# Altium footprint library PassiveFootprints.PcbLib: 16 footprints
Each footprint in its own frame and in the unit in brackets; x right, y up, seen from the top. Pads: shape width x height; smd on the part's side, far side on the other; paste and mask are expansions set on the pad; w line width, h text height; cw(c..) or ccw(c..) is an arc to the next point about the centre after c.
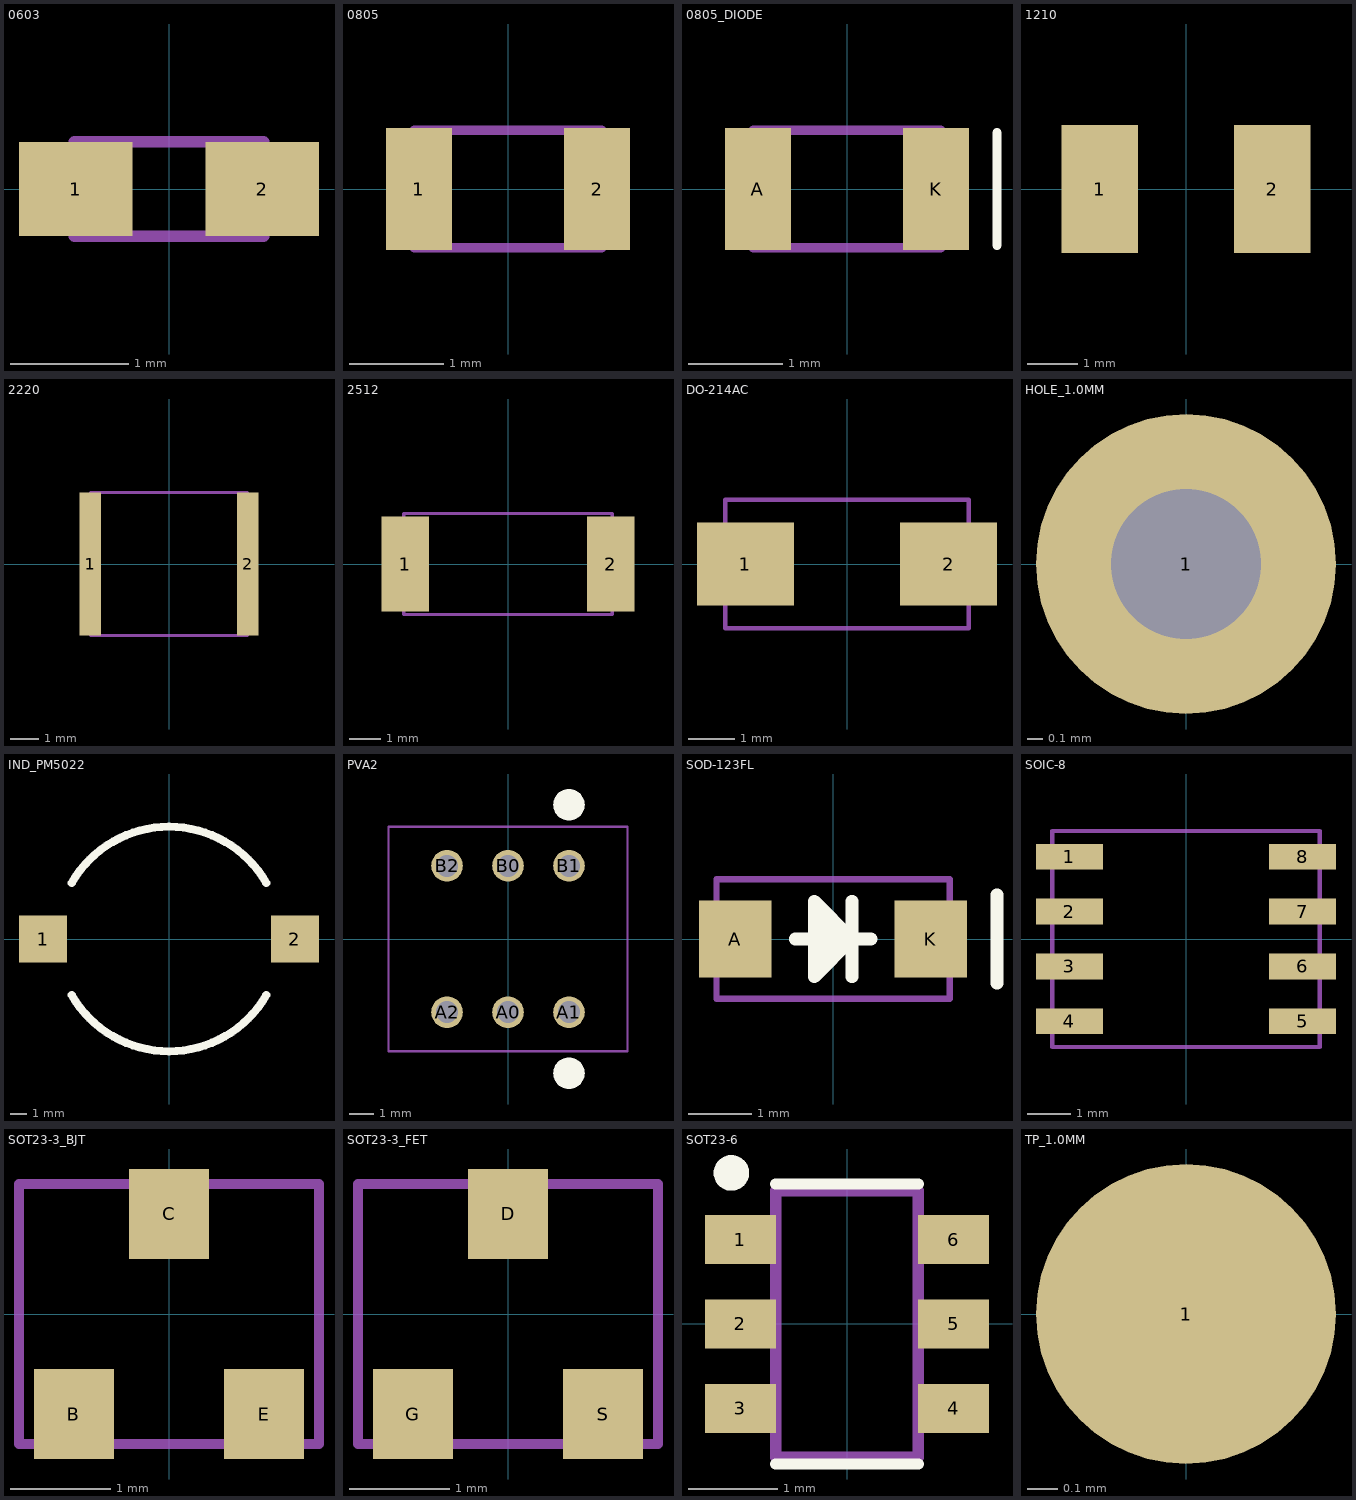
[diagram p0: the footprints below, top view; thin cyan lines are the x and y axes]

## 0603 [mm]
pads (2):
  rect 0.96x0.8 smd: 1(-0.79,0) 2(0.79,0)
Top 3D Body (Mech13):
  lines w0.1: -0.8,-0.4 -0.8,0.4 0.8,0.4 0.8,-0.4 -0.8,-0.4
3D body: height 1.02, standoff 0, extent -0.8,-0.4 0.8,0.4

## 0805 [mm]
pads (2):
  rect 0.7x1.3 smd: 1(-0.95,0) 2(0.95,0)
Top 3D Body (Mech13):
  lines w0.1: -1,-0.625 1,-0.625 1,0.625 -1,0.625 -1,-0.625
3D body: height 0.5, standoff 0, extent -1,-0.625 1,0.625

## 0805_DIODE [mm]
pads (2):
  rect 0.7x1.3 smd: A(-0.95,0) K(0.95,0)
Top Overlay:
  lines w0.1: 1.6,-0.6 1.6,0.6
Top 3D Body (Mech13):
  lines w0.1: -1,-0.625 1,-0.625 1,0.625 -1,0.625 -1,-0.625
3D body: height 0.5, standoff 0, extent -1,-0.625 1,0.625

## 1210 [mil]
pads (2):
  rect 60x100 smd: 1(-67.5,0) 2(67.5,0)
3D body: height 106.3, standoff 0, extent -62.99,-50 62.99,50

## 2220 [mil]
pads (2):
  rect 30x200 smd: 1(-110,0) 2(110,0)
Top 3D Body (Mech13):
  lines w3.94: -110,-100 110,-100 110,100 -110,100 -110,-100
3D body: height 90, standoff 0, extent -110,-100 110,100

## 2512 [mm]
pads (2):
  rect 1.5x3 smd: 1(-3.25,0) 2(3.25,0)
Top 3D Body (Mech13):
  lines w0.1: -3.3,-1.6 -3.3,1.6 3.3,1.6 3.3,-1.6 -3.3,-1.6
3D body: height 0.55, standoff 0, extent -3.3,-1.6 3.3,1.6

## DO-214AC [mm]
pads (2):
  rect 2.1x1.8 smd: 1(-2.2,0) 2(2.2,0)
Top 3D Body (Mech13):
  lines w0.1: -2.64,-1.395 2.64,-1.395 2.64,1.395 -2.64,1.395 -2.64,-1.395
3D body: height 2.29, standoff 0, extent -2.64,-1.395 2.64,1.395

## HOLE_1.0MM [mm]
pads (1):
  round 2 hole 1: 1(0,0)

## IND_PM5022 [mm]
pads (2):
  rect 3x2.9 smd: 1(-7.85,0) 2(7.85,0)
Top Overlay:
  lines w0.5: -6.062,-3.5 ccw(c0,0) 6.062,-3.5 ; -6.062,3.5 cw(c0,0) 6.062,3.5
3D body: height 6.6, standoff 0, extent -7,-7 7,7
3D body: height 6.6, standoff 0, extent -9.2,-4 9.2,4

## PVA2 [mm]
pads (8):
  round 1.3 hole 0.9: A0(0,-3) A1(2.5,-3) A2(-2.5,-3) B0(0,3) B1(2.5,3) B2(-2.5,3)
  round 1.3 on Top Overlay: ""(2.5,-5.5) ""(2.5,5.5)
Top 3D Body (Mech13):
  lines w0.1: -4.9,-4.6 4.9,-4.6 4.9,4.6 -4.9,4.6 -4.9,-4.6
3D body: height 17.54, standoff 0, extent -4.9,-4.6 4.9,4.6

## SOD-123FL [mm]
pads (2):
  rect 1.15x1.22 smd: A(-1.55,0) K(1.55,0)
Top Overlay:
  region: -0.3,0.6 -0.3,-0.6 0.3,0
  lines w0.2: -0.6,0 0.6,0 ; 0.3,-0.6 0.3,0.6 ; 2.6,-0.7 2.6,0.7 ; -0.3,-0.6 0.3,0 -0.3,0.6 -0.3,-0.6
Top 3D Body (Mech13):
  lines w0.1: -1.85,-0.95 1.85,-0.95 1.85,0.95 -1.85,0.95 -1.85,-0.95
3D body: height 1.1, standoff 0, extent -1.85,-0.95 1.85,0.95

## SOIC-8 [mm]
pads (8):
  rect 1.55x0.6 smd: 1(-2.7,1.905) 2(-2.7,0.635) 3(-2.7,-0.635) 4(-2.7,-1.905) 5(2.7,-1.905) 6(2.7,-0.635) 7(2.7,0.635) 8(2.7,1.905)
Top 3D Body (Mech13):
  lines w0.1: -3.1,-2.5 -3.1,2.5 3.1,2.5 3.1,-2.5 -3.1,-2.5
3D body: height 1.75, standoff 0, extent -3.1,-2.5 3.1,2.5

## SOT23-3_BJT [mm]
pads (3):
  rect 0.8x0.9 smd: B(-0.95,-1) C(0,1) E(0.95,-1)
Top 3D Body (Mech13):
  lines w0.1: -1.5,-1.3 -1.5,1.3 1.5,1.3 1.5,-1.3 -1.5,-1.3
3D body: height 1.1, standoff 0, extent -1.5,-1.3 1.5,1.3

## SOT23-3_FET [mm]
pads (3):
  rect 0.8x0.9 smd: D(0,1) G(-0.95,-1) S(0.95,-1)
Top 3D Body (Mech13):
  lines w0.1: -1.5,-1.3 1.5,-1.3 1.5,1.3 -1.5,1.3 -1.5,-1.3
3D body: height 1.1, standoff 0, extent -1.5,-1.3 1.5,1.3

## SOT23-6 [mm]
pads (6):
  rect 0.8x0.55 smd: 1(-1.2,0.95) 2(-1.2,0) 3(-1.2,-0.95) 4(1.2,-0.95) 5(1.2,0) 6(1.2,0.95)
Top Overlay:
  circle w0.2: c-1.3,1.7 r0.1
  lines w0.127: -0.8,-1.575 0.8,-1.575 ; -0.8,1.575 0.8,1.575
Top 3D Body (Mech13):
  lines w0.127: -0.8,-1.5 0.8,-1.5 0.8,1.5 -0.8,1.5 -0.8,-1.5
3D body "step_temp.STEP": height 1.4, standoff 0, extent -1.425,-1.5 1.425,1.5

## TP_1.0MM [mm]
pads (1):
  round 1 smd: 1(0,0)